# Altium footprint library PcbLib1.PcbLib: 4 footprints
Each footprint in its own frame and in the unit in brackets; x right, y up, seen from the top. Pads: shape width x height; smd on the part's side, far side on the other; paste and mask are expansions set on the pad; w line width, h text height; cw(c..) or ccw(c..) is an arc to the next point about the centre after c.
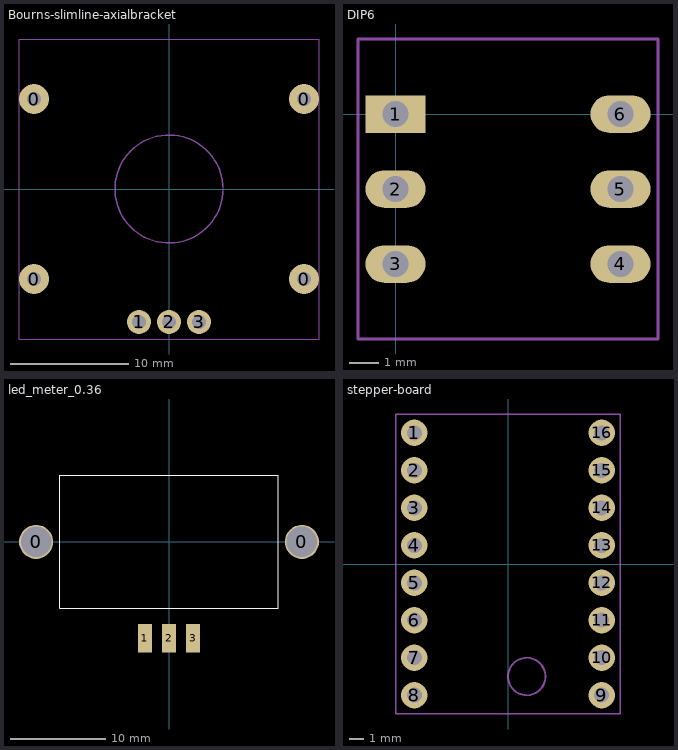
[diagram p0: the footprints below, top view; thin cyan lines are the x and y axes]

## Bourns-slimline-axialbracket [mil]
pads (7):
  round 100 hole 47: 0(-450,-300) 0(-450,300) 0(450,-300) 0(450,300)
  round 80 hole 47: 1(-100,-443) 2(0,-443) 3(100,-443)
Mechanical 1:
  circle w5: c0,0 r180
  lines w3.94: -500,-500 -500,500 500,500 500,-500 -500,-500

## DIP6 [mil]
pads (6):
  rect 80x50 hole 35: 1(0,0)
  oval 80x50 hole 35: 2(0,-100) 3(0,-200) 4(300,-200) 5(300,-100) 6(300,0)
Mechanical 1:
  lines w3.94: -50,-300 -50,50 -50,100 350,100 350,-300 -50,-300

## led_meter_0.36 [mm]
pads (5):
  round 3.6 hole 3.2: 0(-14,0) 0(14,0)
  rect 1.5x3 smd: 1(-2.54,-10.16) 2(0,-10.16) 3(2.54,-10.16)
Top Overlay:
  lines w0.1: -11.5,-7 -11.5,7 11.5,7 11.5,-7 -11.5,-7

## stepper-board [mil]
pads (16):
  round 70 hole 40: 1(-250,350) 2(-250,250) 3(-250,150) 4(-250,50) 5(-250,-50) 6(-250,-150) 7(-250,-250) 8(-250,-350) 9(250,-350) 10(250,-250) 11(250,-150) 12(250,-50) 13(250,50) 14(250,150) 15(250,250) 16(250,350)
Mechanical 1:
  circle w5: c50,-300 r50
  lines w3.94: -300,-400 -300,400 300,400 300,-400 -300,-400